# Altium schematic symbol library hdmiConnector-typeA.SchLib: 1 symbol
Pins are listed as number, name and electrical type; pins without a type are passive.

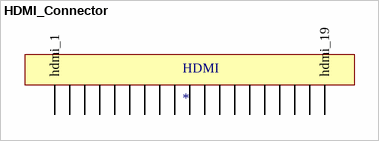
[diagram p0: symbol HDMI_Connector]

## HDMI_Connector
designator HDMI
footprint SQFP50P1720X2320X245-38N (SQFP, 38-Leads, Body 14.00x14.00mm, Pitch 0.50mm, IPC Medium Density)
footprint 685119136923 (19 pad, 1mmx.23mm, .4mm pitch)
pins: hdmi_1, hdmi_2, hdmi_3, hdmi_4, hdmi_5, hdmi_6, hdmi_7, hdmi_8, hdmi_9, hdmi_10, hdmi_11, hdmi_12, hdmi_13, hdmi_14, hdmi_15, hdmi_16, hdmi_17, hdmi_18, hdmi_19